# EAGLE library part 74F74SC (library Fairchild_By_element14_Batch_1)
Dual D-Type Positive Edge-Triggered Flip-Flop
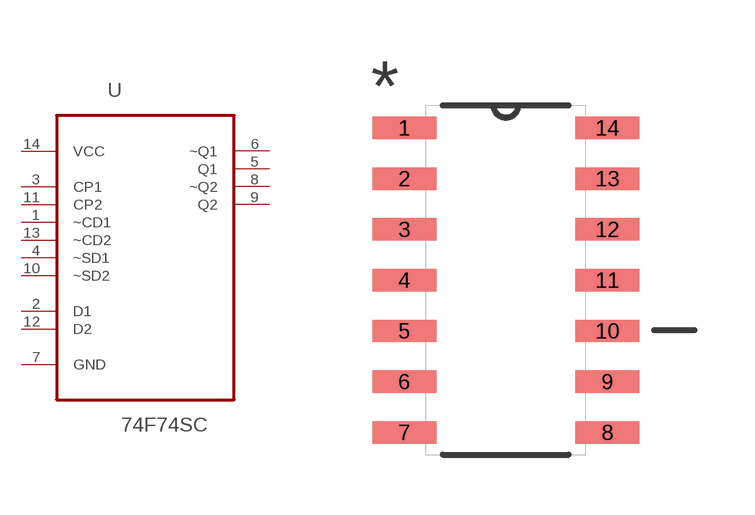
[diagram p65: symbol with the pads of SOIC127P600X175-14N; footprint SOIC127P600X175-14N]

Designator prefix U

## 74F74SC (MPN: 74F74SC; OC_FARNELL: 1467317; OC_NEWARK: 78K6269; PACKAGE: SOIC-14; SUPPLIER: Fairchild)  [SOIC127P600X175-14N]
1  ~CD1  in
2  D1  in
3  CP1  in
4  ~SD1  in
5  Q1  out
6  ~Q1  out
7  GND  pas
8  ~Q2  out
9  Q2  out
10  ~SD2  in
11  CP2  in
12  D2  in
13  ~CD2  in
14  VCC  pwr

## Footprint SOIC127P600X175-14N (pad centres in mm)
smd 1.6 x 0.559: 1 -2.54,3.81; 2 -2.54,2.54; 3 -2.54,1.27; 4 -2.54,0; 5 -2.54,-1.27; 6 -2.54,-2.54; 7 -2.54,-3.81; 8 2.54,-3.81; 9 2.54,-2.54; 10 2.54,-1.27; 11 2.54,0; 12 2.54,1.27; 13 2.54,2.54; 14 2.54,3.81